# EAGLE library part TMS320F28379DPTPS (library TMS320F28379D_PTP)
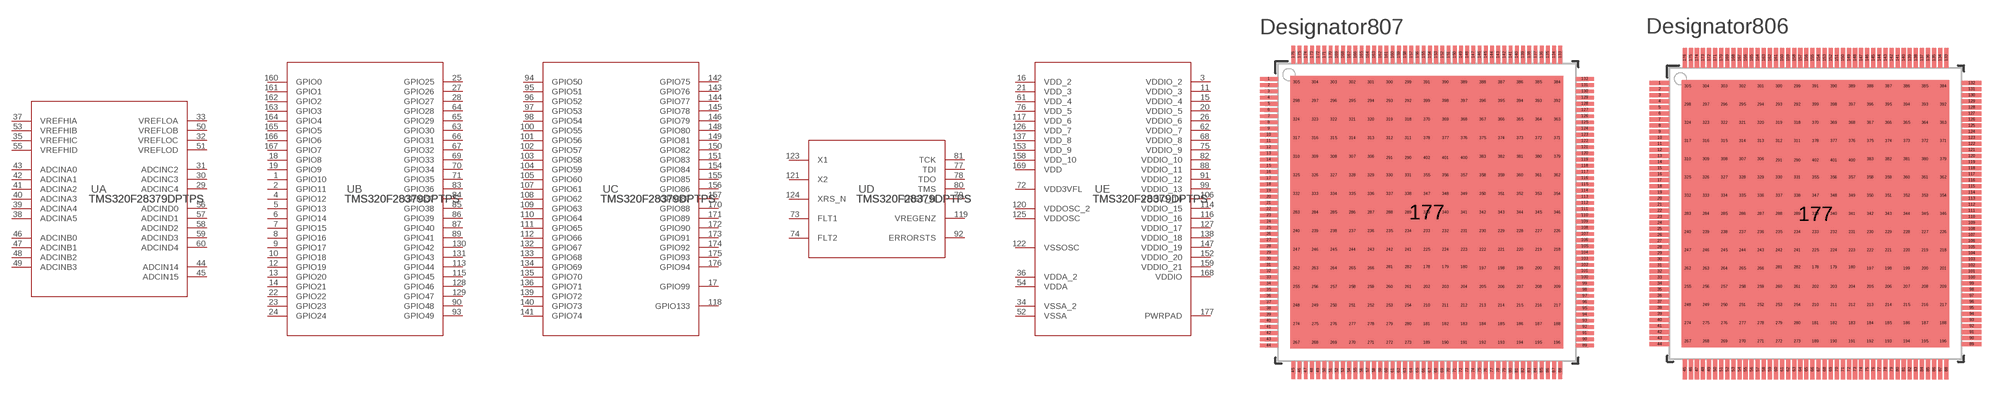
[diagram p0: symbol with the pads of PTP0176F_N; footprints PTP0176F_N, PTP0176F_M]

Designator prefix U; gates A=TMS320F28379DPTP_A B=TMS320F28379DPTP_B C=TMS320F28379DPTP_C D=TMS320F28379DPTP_D E=TMS320F28379DPTP_E

## TMS320F28379DPTPSPTP0176F_N (Manufacturer: Texas Instruments; PartNumber: TMS320F28379DPTPS; RefDes: RefDes; TYPE: TYPE; Value: Value)  [PTP0176F_N]
1  B:GPIO10
2  B:GPIO11
3  E:VDDIO_2  pwr
4  B:GPIO12
5  B:GPIO13
6  B:GPIO14
7  B:GPIO15
8  B:GPIO16
9  B:GPIO17
10  B:GPIO18
11  E:VDDIO_3  pwr
12  B:GPIO19
13  B:GPIO20
14  B:GPIO21
15  E:VDDIO_4  pwr
16  E:VDD_2  pwr
17  C:GPIO99
18  B:GPIO8
19  B:GPIO9
20  E:VDDIO_5  pwr
21  E:VDD_3  pwr
22  B:GPIO22
23  B:GPIO23
24  B:GPIO24
25  B:GPIO25
26  E:VDDIO_6  pwr
27  B:GPIO26
28  B:GPIO27
29  A:ADCINC4  in
30  A:ADCINC3  in
31  A:ADCINC2  in
32  A:VREFLOC  in
33  A:VREFLOA  in
34  E:VSSA_2  pwr
35  A:VREFHIC  in
36  E:VDDA_2  pwr
37  A:VREFHIA  in
38  A:ADCINA5  in
39  A:ADCINA4  in
40  A:ADCINA3  in
41  A:ADCINA2  in
42  A:ADCINA1  in
43  A:ADCINA0  in
44  A:ADCIN14  in
45  A:ADCIN15  in
46  A:ADCINB0  in
47  A:ADCINB1  in
48  A:ADCINB2  in
49  A:ADCINB3  in
50  A:VREFLOB  in
51  A:VREFLOD  in
52  E:VSSA  pwr
53  A:VREFHIB  in
54  E:VDDA  pwr
55  A:VREFHID  in
56  A:ADCIND0  in
57  A:ADCIND1  in
58  A:ADCIND2  in
59  A:ADCIND3  in
60  A:ADCIND4  in
61  E:VDD_4  pwr
62  E:VDDIO_7  pwr
63  B:GPIO30
64  B:GPIO28
65  B:GPIO29
66  B:GPIO31
67  B:GPIO32
68  E:VDDIO_8  pwr
69  B:GPIO33
70  B:GPIO34
71  B:GPIO35
72  E:VDD3VFL  pwr
73  D:FLT1
74  D:FLT2
75  E:VDDIO_9  pwr
76  E:VDD_5  pwr
77  D:TDI  in
78  D:TDO  out
79  D:TRST_N  in
80  D:TMS  in
81  D:TCK  in
82  E:VDDIO_10  pwr
83  B:GPIO36
84  B:GPIO37
85  B:GPIO38
86  B:GPIO39
87  B:GPIO40
88  E:VDDIO_11  pwr
89  B:GPIO41
90  B:GPIO48
91  E:VDDIO_12  pwr
92  D:ERRORSTS  out
93  B:GPIO49
94  C:GPIO50
95  C:GPIO51
96  C:GPIO52
97  C:GPIO53
98  C:GPIO54
99  E:VDDIO_13  pwr
100  C:GPIO55
101  C:GPIO56
102  C:GPIO57
103  C:GPIO58
104  C:GPIO59
105  C:GPIO60
106  E:VDDIO_14  pwr
107  C:GPIO61
108  C:GPIO62
109  C:GPIO63
110  C:GPIO64
111  C:GPIO65
112  C:GPIO66
113  B:GPIO44
114  E:VDDIO_15  pwr
115  B:GPIO45
116  E:VDDIO_16  pwr
117  E:VDD_6  pwr
118  C:GPIO133
119  D:VREGENZ  in
120  E:VDDOSC_2  pwr
121  D:X2  out
122  E:VSSOSC  pwr
123  D:X1  in
124  D:XRS_N
125  E:VDDOSC  pwr
126  E:VDD_7  pwr
127  E:VDDIO_17  pwr
128  B:GPIO46
129  B:GPIO47
130  B:GPIO42
131  B:GPIO43
132  C:GPIO67
133  C:GPIO68
134  C:GPIO69
135  C:GPIO70
136  C:GPIO71
137  E:VDD_8  pwr
138  E:VDDIO_18  pwr
139  C:GPIO72
140  C:GPIO73
141  C:GPIO74
142  C:GPIO75
143  C:GPIO76
144  C:GPIO77
145  C:GPIO78
146  C:GPIO79
147  E:VDDIO_19  pwr
148  C:GPIO80
149  C:GPIO81
150  C:GPIO82
151  C:GPIO83
152  E:VDDIO_20  pwr
153  E:VDD_9  pwr
154  C:GPIO84
155  C:GPIO85
156  C:GPIO86
157  C:GPIO87
158  E:VDD_10  pwr
159  E:VDDIO_21  pwr
160  B:GPIO0
161  B:GPIO1
162  B:GPIO2
163  B:GPIO3
164  B:GPIO4
165  B:GPIO5
166  B:GPIO6
167  B:GPIO7
168  E:VDDIO  pwr
169  E:VDD  pwr
170  C:GPIO88
171  C:GPIO89
172  C:GPIO90
173  C:GPIO91
174  C:GPIO92
175  C:GPIO93
176  C:GPIO94
177  E:PWRPAD  pwr

## TMS320F28379DPTPSPTP0176F_M (Manufacturer: Texas Instruments; PartNumber: TMS320F28379DPTPS; RefDes: RefDes; TYPE: TYPE; Value: Value)  [PTP0176F_M]
Pads as for PTP0176F_N

## TMS320F28379DPTPSPTP0176F_L (Manufacturer: Texas Instruments; PartNumber: TMS320F28379DPTPS; RefDes: RefDes; TYPE: TYPE; Value: Value)  [PTP0176F_L]
Pads as for PTP0176F_N

## Footprint PTP0176F_N (pad centres in mm)
smd 1.45 x 0.3: 1 -12.725,10.75; 2 -12.725,10.25; 3 -12.725,9.75; 4 -12.725,9.25; 5 -12.725,8.75; 6 -12.725,8.25; 7 -12.725,7.75; 8 -12.725,7.25; 9 -12.725,6.75; 10 -12.725,6.25; 11 -12.725,5.75; 12 -12.725,5.25; 13 -12.725,4.75; 14 -12.725,4.25; 15 -12.725,3.75; 16 -12.725,3.25; 17 -12.725,2.75; 18 -12.725,2.25; 19 -12.725,1.75; 20 -12.725,1.25; 21 -12.725,0.75; 22 -12.725,0.25; 23 -12.725,-0.25; 24 -12.725,-0.75; 25 -12.725,-1.25; 26 -12.725,-1.75; 27 -12.725,-2.25; 28 -12.725,-2.75; 29 -12.725,-3.25; 30 -12.725,-3.75; 31 -12.725,-4.25; 32 -12.725,-4.75; 33 -12.725,-5.25; 34 -12.725,-5.75; 35 -12.725,-6.25; 36 -12.725,-6.75; 37 -12.725,-7.25; 38 -12.725,-7.75; 39 -12.725,-8.25; 40 -12.725,-8.75; 41 -12.725,-9.25; 42 -12.725,-9.75; 43 -12.725,-10.25; 44 -12.725,-10.75; 89 12.725,-10.75; 90 12.725,-10.25; 91 12.725,-9.75; 92 12.725,-9.25; 93 12.725,-8.75; 94 12.725,-8.25; 95 12.725,-7.75; 96 12.725,-7.25; 97 12.725,-6.75; 98 12.725,-6.25; 99 12.725,-5.75; 100 12.725,-5.25; 101 12.725,-4.75; 102 12.725,-4.25; 103 12.725,-3.75; 104 12.725,-3.25; 105 12.725,-2.75; 106 12.725,-2.25; 107 12.725,-1.75; 108 12.725,-1.25; 109 12.725,-0.75; 110 12.725,-0.25; 111 12.725,0.25; 112 12.725,0.75; 113 12.725,1.25; 114 12.725,1.75; 115 12.725,2.25; 116 12.725,2.75; 117 12.725,3.25; 118 12.725,3.75; 119 12.725,4.25; 120 12.725,4.75; 121 12.725,5.25; 122 12.725,5.75; 123 12.725,6.25; 124 12.725,6.75; 125 12.725,7.25; 126 12.725,7.75; 127 12.725,8.25; 128 12.725,8.75; 129 12.725,9.25; 130 12.725,9.75; 131 12.725,10.25; 132 12.725,10.75
smd 0.3 x 1.45: 45 -10.75,-12.725; 46 -10.25,-12.725; 47 -9.75,-12.725; 48 -9.25,-12.725; 49 -8.75,-12.725; 50 -8.25,-12.725; 51 -7.75,-12.725; 52 -7.25,-12.725; 53 -6.75,-12.725; 54 -6.25,-12.725; 55 -5.75,-12.725; 56 -5.25,-12.725; 57 -4.75,-12.725; 58 -4.25,-12.725; 59 -3.75,-12.725; 60 -3.25,-12.725; 61 -2.75,-12.725; 62 -2.25,-12.725; 63 -1.75,-12.725; 64 -1.25,-12.725; 65 -0.75,-12.725; 66 -0.25,-12.725; 67 0.25,-12.725; 68 0.75,-12.725; 69 1.25,-12.725; 70 1.75,-12.725; 71 2.25,-12.725; 72 2.75,-12.725; 73 3.25,-12.725; 74 3.75,-12.725; 75 4.25,-12.725; 76 4.75,-12.725; 77 5.25,-12.725; 78 5.75,-12.725; 79 6.25,-12.725; 80 6.75,-12.725; 81 7.25,-12.725; 82 7.75,-12.725; 83 8.25,-12.725; 84 8.75,-12.725; 85 9.25,-12.725; 86 9.75,-12.725; 87 10.25,-12.725; 88 10.75,-12.725; 133 10.75,12.725; 134 10.25,12.725; 135 9.75,12.725; 136 9.25,12.725; 137 8.75,12.725; 138 8.25,12.725; 139 7.75,12.725; 140 7.25,12.725; 141 6.75,12.725; 142 6.25,12.725; 143 5.75,12.725; 144 5.25,12.725; 145 4.75,12.725; 146 4.25,12.725; 147 3.75,12.725; 148 3.25,12.725; 149 2.75,12.725; 150 2.25,12.725; 151 1.75,12.725; 152 1.25,12.725; 153 0.75,12.725; 154 0.25,12.725; 155 -0.25,12.725; 156 -0.75,12.725; 157 -1.25,12.725; 158 -1.75,12.725; 159 -2.25,12.725; 160 -2.75,12.725; 161 -3.25,12.725; 162 -3.75,12.725; 163 -4.25,12.725; 164 -4.75,12.725; 165 -5.25,12.725; 166 -5.75,12.725; 167 -6.25,12.725; 168 -6.75,12.725; 169 -7.25,12.725; 170 -7.75,12.725; 171 -8.25,12.725; 172 -8.75,12.725; 173 -9.25,12.725; 174 -9.75,12.725; 175 -10.25,12.725; 176 -10.75,12.725
smd 22 x 22: 177 0,0
smd 0.5 x 0.5: 178 0,-4.4; 179 1.5,-4.4; 180 3,-4.4; 181 0,-9; 182 1.5,-9; 183 3,-9; 184 4.5,-9; 185 6,-9; 186 7.5,-9; 187 9,-9; 188 10.5,-9; 189 0,-10.5; 190 1.5,-10.5; 191 3,-10.5; 192 4.5,-10.5; 193 6,-10.5; 194 7.5,-10.5; 195 9,-10.5; 196 10.5,-10.5; 197 4.5,-4.5; 198 6,-4.5; 199 7.5,-4.5; 200 9,-4.5; 201 10.5,-4.5; 202 0,-6; 203 1.5,-6; 204 3,-6; 205 4.5,-6; 206 6,-6; 207 7.5,-6; 208 9,-6; 209 10.5,-6; 210 0,-7.5; 211 1.5,-7.5; 212 3,-7.5; 213 4.5,-7.5; 214 6,-7.5; 215 7.5,-7.5; 216 9,-7.5; 217 10.5,-7.5; 218 10.5,-3; 219 9,-3; 220 7.5,-3; 221 6,-3; 222 4.5,-3; 223 3,-3; 224 1.5,-3; 225 0,-3; 226 10.5,-1.5; 227 9,-1.5; 228 7.5,-1.5; 229 6,-1.5; 230 4.5,-1.5; 231 3,-1.5; 232 1.5,-1.5; 233 0,-1.5; 234 -1.5,-1.5; 235 -3,-1.5; 236 -4.5,-1.5; 237 -6,-1.5; 238 -7.5,-1.5; 239 -9,-1.5; 240 -10.5,-1.5; 241 -1.5,-3; 242 -3,-3; 243 -4.5,-3; 244 -6,-3; 245 -7.5,-3; 246 -9,-3; 247 -10.5,-3; 248 -10.5,-7.5; 249 -9,-7.5; 250 -7.5,-7.5; 251 -6,-7.5; 252 -4.5,-7.5; 253 -3,-7.5; 254 -1.5,-7.5; 255 -10.5,-6; 256 -9,-6; 257 -7.5,-6; 258 -6,-6; 259 -4.5,-6; 260 -3,-6; 261 -1.5,-6; 262 -10.5,-4.5; 263 -9,-4.5; 264 -7.5,-4.5; 265 -6,-4.5; 266 -4.5,-4.5; 267 -10.5,-10.5; 268 -9,-10.5; 269 -7.5,-10.5; 270 -6,-10.5; 271 -4.5,-10.5; 272 -3,-10.5; 273 -1.5,-10.5; 274 -10.5,-9; 275 -9,-9; 276 -7.5,-9; 277 -6,-9; 278 -4.5,-9; 279 -3,-9; 280 -1.5,-9; 281 -3,-4.4; 282 -1.5,-4.4; 283 -10.5,0; 284 -9,0; 285 -7.5,0; 286 -6,0; 287 -4.5,0; 288 -3,0; 289 -1.5,0; 290 -1.5,4.4; 291 -3,4.4; 292 -1.5,9; 293 -3,9; 294 -4.5,9; 295 -6,9; 296 -7.5,9; 297 -9,9; 298 -10.5,9; 299 -1.5,10.5; 300 -3,10.5; 301 -4.5,10.5; 302 -6,10.5; 303 -7.5,10.5; 304 -9,10.5; 305 -10.5,10.5; 306 -4.5,4.5; 307 -6,4.5; 308 -7.5,4.5; 309 -9,4.5; 310 -10.5,4.5; 311 -1.5,6; 312 -3,6; 313 -4.5,6; 314 -6,6; 315 -7.5,6; 316 -9,6; 317 -10.5,6; 318 -1.5,7.5; 319 -3,7.5; 320 -4.5,7.5; 321 -6,7.5; 322 -7.5,7.5; 323 -9,7.5; 324 -10.5,7.5; 325 -10.5,3; 326 -9,3; 327 -7.5,3; 328 -6,3; 329 -4.5,3; 330 -3,3; 331 -1.5,3; 332 -10.5,1.5; 333 -9,1.5; 334 -7.5,1.5; 335 -6,1.5; 336 -4.5,1.5; 337 -3,1.5; 338 -1.5,1.5; 339 0,0; 340 1.5,0; 341 3,0; 342 4.5,0; 343 6,0; 344 7.5,0; 345 9,0; 346 10.5,0; 347 0,1.5; 348 1.5,1.5; 349 3,1.5; 350 4.5,1.5; 351 6,1.5; 352 7.5,1.5; 353 9,1.5; 354 10.5,1.5; 355 0,3; 356 1.5,3; 357 3,3; 358 4.5,3; 359 6,3; 360 7.5,3; 361 9,3; 362 10.5,3; 363 10.5,7.5; 364 9,7.5; 365 7.5,7.5; 366 6,7.5; 367 4.5,7.5; 368 3,7.5; 369 1.5,7.5; 370 0,7.5; 371 10.5,6; 372 9,6; 373 7.5,6; 374 6,6; 375 4.5,6; 376 3,6; 377 1.5,6; 378 0,6; 379 10.5,4.5; 380 9,4.5; 381 7.5,4.5; 382 6,4.5; 383 4.5,4.5; 384 10.5,10.5; 385 9,10.5; 386 7.5,10.5; 387 6,10.5; 388 4.5,10.5; 389 3,10.5; 390 1.5,10.5; 391 0,10.5; 392 10.5,9; 393 9,9; 394 7.5,9; 395 6,9; 396 4.5,9; 397 3,9; 398 1.5,9; 399 0,9; 400 3,4.4; 401 1.5,4.4; 402 0,4.4

## Footprint PTP0176F_M (pad centres in mm)
smd 1.65 x 0.35: 1 -12.825,10.75; 2 -12.825,10.25; 3 -12.825,9.75; 4 -12.825,9.25; 5 -12.825,8.75; 6 -12.825,8.25; 7 -12.825,7.75; 8 -12.825,7.25; 9 -12.825,6.75; 10 -12.825,6.25; 11 -12.825,5.75; 12 -12.825,5.25; 13 -12.825,4.75; 14 -12.825,4.25; 15 -12.825,3.75; 16 -12.825,3.25; 17 -12.825,2.75; 18 -12.825,2.25; 19 -12.825,1.75; 20 -12.825,1.25; 21 -12.825,0.75; 22 -12.825,0.25; 23 -12.825,-0.25; 24 -12.825,-0.75; 25 -12.825,-1.25; 26 -12.825,-1.75; 27 -12.825,-2.25; 28 -12.825,-2.75; 29 -12.825,-3.25; 30 -12.825,-3.75; 31 -12.825,-4.25; 32 -12.825,-4.75; 33 -12.825,-5.25; 34 -12.825,-5.75; 35 -12.825,-6.25; 36 -12.825,-6.75; 37 -12.825,-7.25; 38 -12.825,-7.75; 39 -12.825,-8.25; 40 -12.825,-8.75; 41 -12.825,-9.25; 42 -12.825,-9.75; 43 -12.825,-10.25; 44 -12.825,-10.75; 89 12.825,-10.75; 90 12.825,-10.25; 91 12.825,-9.75; 92 12.825,-9.25; 93 12.825,-8.75; 94 12.825,-8.25; 95 12.825,-7.75; 96 12.825,-7.25; 97 12.825,-6.75; 98 12.825,-6.25; 99 12.825,-5.75; 100 12.825,-5.25; 101 12.825,-4.75; 102 12.825,-4.25; 103 12.825,-3.75; 104 12.825,-3.25; 105 12.825,-2.75; 106 12.825,-2.25; 107 12.825,-1.75; 108 12.825,-1.25; 109 12.825,-0.75; 110 12.825,-0.25; 111 12.825,0.25; 112 12.825,0.75; 113 12.825,1.25; 114 12.825,1.75; 115 12.825,2.25; 116 12.825,2.75; 117 12.825,3.25; 118 12.825,3.75; 119 12.825,4.25; 120 12.825,4.75; 121 12.825,5.25; 122 12.825,5.75; 123 12.825,6.25; 124 12.825,6.75; 125 12.825,7.25; 126 12.825,7.75; 127 12.825,8.25; 128 12.825,8.75; 129 12.825,9.25; 130 12.825,9.75; 131 12.825,10.25; 132 12.825,10.75
smd 0.35 x 1.65: 45 -10.75,-12.825; 46 -10.25,-12.825; 47 -9.75,-12.825; 48 -9.25,-12.825; 49 -8.75,-12.825; 50 -8.25,-12.825; 51 -7.75,-12.825; 52 -7.25,-12.825; 53 -6.75,-12.825; 54 -6.25,-12.825; 55 -5.75,-12.825; 56 -5.25,-12.825; 57 -4.75,-12.825; 58 -4.25,-12.825; 59 -3.75,-12.825; 60 -3.25,-12.825; 61 -2.75,-12.825; 62 -2.25,-12.825; 63 -1.75,-12.825; 64 -1.25,-12.825; 65 -0.75,-12.825; 66 -0.25,-12.825; 67 0.25,-12.825; 68 0.75,-12.825; 69 1.25,-12.825; 70 1.75,-12.825; 71 2.25,-12.825; 72 2.75,-12.825; 73 3.25,-12.825; 74 3.75,-12.825; 75 4.25,-12.825; 76 4.75,-12.825; 77 5.25,-12.825; 78 5.75,-12.825; 79 6.25,-12.825; 80 6.75,-12.825; 81 7.25,-12.825; 82 7.75,-12.825; 83 8.25,-12.825; 84 8.75,-12.825; 85 9.25,-12.825; 86 9.75,-12.825; 87 10.25,-12.825; 88 10.75,-12.825; 133 10.75,12.825; 134 10.25,12.825; 135 9.75,12.825; 136 9.25,12.825; 137 8.75,12.825; 138 8.25,12.825; 139 7.75,12.825; 140 7.25,12.825; 141 6.75,12.825; 142 6.25,12.825; 143 5.75,12.825; 144 5.25,12.825; 145 4.75,12.825; 146 4.25,12.825; 147 3.75,12.825; 148 3.25,12.825; 149 2.75,12.825; 150 2.25,12.825; 151 1.75,12.825; 152 1.25,12.825; 153 0.75,12.825; 154 0.25,12.825; 155 -0.25,12.825; 156 -0.75,12.825; 157 -1.25,12.825; 158 -1.75,12.825; 159 -2.25,12.825; 160 -2.75,12.825; 161 -3.25,12.825; 162 -3.75,12.825; 163 -4.25,12.825; 164 -4.75,12.825; 165 -5.25,12.825; 166 -5.75,12.825; 167 -6.25,12.825; 168 -6.75,12.825; 169 -7.25,12.825; 170 -7.75,12.825; 171 -8.25,12.825; 172 -8.75,12.825; 173 -9.25,12.825; 174 -9.75,12.825; 175 -10.25,12.825; 176 -10.75,12.825
smd 22 x 22: 177 0,0
smd 0.5 x 0.5: 178 0,-4.4; 179 1.5,-4.4; 180 3,-4.4; 181 0,-9; 182 1.5,-9; 183 3,-9; 184 4.5,-9; 185 6,-9; 186 7.5,-9; 187 9,-9; 188 10.5,-9; 189 0,-10.5; 190 1.5,-10.5; 191 3,-10.5; 192 4.5,-10.5; 193 6,-10.5; 194 7.5,-10.5; 195 9,-10.5; 196 10.5,-10.5; 197 4.5,-4.5; 198 6,-4.5; 199 7.5,-4.5; 200 9,-4.5; 201 10.5,-4.5; 202 0,-6; 203 1.5,-6; 204 3,-6; 205 4.5,-6; 206 6,-6; 207 7.5,-6; 208 9,-6; 209 10.5,-6; 210 0,-7.5; 211 1.5,-7.5; 212 3,-7.5; 213 4.5,-7.5; 214 6,-7.5; 215 7.5,-7.5; 216 9,-7.5; 217 10.5,-7.5; 218 10.5,-3; 219 9,-3; 220 7.5,-3; 221 6,-3; 222 4.5,-3; 223 3,-3; 224 1.5,-3; 225 0,-3; 226 10.5,-1.5; 227 9,-1.5; 228 7.5,-1.5; 229 6,-1.5; 230 4.5,-1.5; 231 3,-1.5; 232 1.5,-1.5; 233 0,-1.5; 234 -1.5,-1.5; 235 -3,-1.5; 236 -4.5,-1.5; 237 -6,-1.5; 238 -7.5,-1.5; 239 -9,-1.5; 240 -10.5,-1.5; 241 -1.5,-3; 242 -3,-3; 243 -4.5,-3; 244 -6,-3; 245 -7.5,-3; 246 -9,-3; 247 -10.5,-3; 248 -10.5,-7.5; 249 -9,-7.5; 250 -7.5,-7.5; 251 -6,-7.5; 252 -4.5,-7.5; 253 -3,-7.5; 254 -1.5,-7.5; 255 -10.5,-6; 256 -9,-6; 257 -7.5,-6; 258 -6,-6; 259 -4.5,-6; 260 -3,-6; 261 -1.5,-6; 262 -10.5,-4.5; 263 -9,-4.5; 264 -7.5,-4.5; 265 -6,-4.5; 266 -4.5,-4.5; 267 -10.5,-10.5; 268 -9,-10.5; 269 -7.5,-10.5; 270 -6,-10.5; 271 -4.5,-10.5; 272 -3,-10.5; 273 -1.5,-10.5; 274 -10.5,-9; 275 -9,-9; 276 -7.5,-9; 277 -6,-9; 278 -4.5,-9; 279 -3,-9; 280 -1.5,-9; 281 -3,-4.4; 282 -1.5,-4.4; 283 -10.5,0; 284 -9,0; 285 -7.5,0; 286 -6,0; 287 -4.5,0; 288 -3,0; 289 -1.5,0; 290 -1.5,4.4; 291 -3,4.4; 292 -1.5,9; 293 -3,9; 294 -4.5,9; 295 -6,9; 296 -7.5,9; 297 -9,9; 298 -10.5,9; 299 -1.5,10.5; 300 -3,10.5; 301 -4.5,10.5; 302 -6,10.5; 303 -7.5,10.5; 304 -9,10.5; 305 -10.5,10.5; 306 -4.5,4.5; 307 -6,4.5; 308 -7.5,4.5; 309 -9,4.5; 310 -10.5,4.5; 311 -1.5,6; 312 -3,6; 313 -4.5,6; 314 -6,6; 315 -7.5,6; 316 -9,6; 317 -10.5,6; 318 -1.5,7.5; 319 -3,7.5; 320 -4.5,7.5; 321 -6,7.5; 322 -7.5,7.5; 323 -9,7.5; 324 -10.5,7.5; 325 -10.5,3; 326 -9,3; 327 -7.5,3; 328 -6,3; 329 -4.5,3; 330 -3,3; 331 -1.5,3; 332 -10.5,1.5; 333 -9,1.5; 334 -7.5,1.5; 335 -6,1.5; 336 -4.5,1.5; 337 -3,1.5; 338 -1.5,1.5; 339 0,0; 340 1.5,0; 341 3,0; 342 4.5,0; 343 6,0; 344 7.5,0; 345 9,0; 346 10.5,0; 347 0,1.5; 348 1.5,1.5; 349 3,1.5; 350 4.5,1.5; 351 6,1.5; 352 7.5,1.5; 353 9,1.5; 354 10.5,1.5; 355 0,3; 356 1.5,3; 357 3,3; 358 4.5,3; 359 6,3; 360 7.5,3; 361 9,3; 362 10.5,3; 363 10.5,7.5; 364 9,7.5; 365 7.5,7.5; 366 6,7.5; 367 4.5,7.5; 368 3,7.5; 369 1.5,7.5; 370 0,7.5; 371 10.5,6; 372 9,6; 373 7.5,6; 374 6,6; 375 4.5,6; 376 3,6; 377 1.5,6; 378 0,6; 379 10.5,4.5; 380 9,4.5; 381 7.5,4.5; 382 6,4.5; 383 4.5,4.5; 384 10.5,10.5; 385 9,10.5; 386 7.5,10.5; 387 6,10.5; 388 4.5,10.5; 389 3,10.5; 390 1.5,10.5; 391 0,10.5; 392 10.5,9; 393 9,9; 394 7.5,9; 395 6,9; 396 4.5,9; 397 3,9; 398 1.5,9; 399 0,9; 400 3,4.4; 401 1.5,4.4; 402 0,4.4

## Footprint PTP0176F_L (pad centres in mm)
smd 1.25 x 0.25: 1 -12.625,10.75; 2 -12.625,10.25; 3 -12.625,9.75; 4 -12.625,9.25; 5 -12.625,8.75; 6 -12.625,8.25; 7 -12.625,7.75; 8 -12.625,7.25; 9 -12.625,6.75; 10 -12.625,6.25; 11 -12.625,5.75; 12 -12.625,5.25; 13 -12.625,4.75; 14 -12.625,4.25; 15 -12.625,3.75; 16 -12.625,3.25; 17 -12.625,2.75; 18 -12.625,2.25; 19 -12.625,1.75; 20 -12.625,1.25; 21 -12.625,0.75; 22 -12.625,0.25; 23 -12.625,-0.25; 24 -12.625,-0.75; 25 -12.625,-1.25; 26 -12.625,-1.75; 27 -12.625,-2.25; 28 -12.625,-2.75; 29 -12.625,-3.25; 30 -12.625,-3.75; 31 -12.625,-4.25; 32 -12.625,-4.75; 33 -12.625,-5.25; 34 -12.625,-5.75; 35 -12.625,-6.25; 36 -12.625,-6.75; 37 -12.625,-7.25; 38 -12.625,-7.75; 39 -12.625,-8.25; 40 -12.625,-8.75; 41 -12.625,-9.25; 42 -12.625,-9.75; 43 -12.625,-10.25; 44 -12.625,-10.75; 89 12.625,-10.75; 90 12.625,-10.25; 91 12.625,-9.75; 92 12.625,-9.25; 93 12.625,-8.75; 94 12.625,-8.25; 95 12.625,-7.75; 96 12.625,-7.25; 97 12.625,-6.75; 98 12.625,-6.25; 99 12.625,-5.75; 100 12.625,-5.25; 101 12.625,-4.75; 102 12.625,-4.25; 103 12.625,-3.75; 104 12.625,-3.25; 105 12.625,-2.75; 106 12.625,-2.25; 107 12.625,-1.75; 108 12.625,-1.25; 109 12.625,-0.75; 110 12.625,-0.25; 111 12.625,0.25; 112 12.625,0.75; 113 12.625,1.25; 114 12.625,1.75; 115 12.625,2.25; 116 12.625,2.75; 117 12.625,3.25; 118 12.625,3.75; 119 12.625,4.25; 120 12.625,4.75; 121 12.625,5.25; 122 12.625,5.75; 123 12.625,6.25; 124 12.625,6.75; 125 12.625,7.25; 126 12.625,7.75; 127 12.625,8.25; 128 12.625,8.75; 129 12.625,9.25; 130 12.625,9.75; 131 12.625,10.25; 132 12.625,10.75
smd 0.25 x 1.25: 45 -10.75,-12.625; 46 -10.25,-12.625; 47 -9.75,-12.625; 48 -9.25,-12.625; 49 -8.75,-12.625; 50 -8.25,-12.625; 51 -7.75,-12.625; 52 -7.25,-12.625; 53 -6.75,-12.625; 54 -6.25,-12.625; 55 -5.75,-12.625; 56 -5.25,-12.625; 57 -4.75,-12.625; 58 -4.25,-12.625; 59 -3.75,-12.625; 60 -3.25,-12.625; 61 -2.75,-12.625; 62 -2.25,-12.625; 63 -1.75,-12.625; 64 -1.25,-12.625; 65 -0.75,-12.625; 66 -0.25,-12.625; 67 0.25,-12.625; 68 0.75,-12.625; 69 1.25,-12.625; 70 1.75,-12.625; 71 2.25,-12.625; 72 2.75,-12.625; 73 3.25,-12.625; 74 3.75,-12.625; 75 4.25,-12.625; 76 4.75,-12.625; 77 5.25,-12.625; 78 5.75,-12.625; 79 6.25,-12.625; 80 6.75,-12.625; 81 7.25,-12.625; 82 7.75,-12.625; 83 8.25,-12.625; 84 8.75,-12.625; 85 9.25,-12.625; 86 9.75,-12.625; 87 10.25,-12.625; 88 10.75,-12.625; 133 10.75,12.625; 134 10.25,12.625; 135 9.75,12.625; 136 9.25,12.625; 137 8.75,12.625; 138 8.25,12.625; 139 7.75,12.625; 140 7.25,12.625; 141 6.75,12.625; 142 6.25,12.625; 143 5.75,12.625; 144 5.25,12.625; 145 4.75,12.625; 146 4.25,12.625; 147 3.75,12.625; 148 3.25,12.625; 149 2.75,12.625; 150 2.25,12.625; 151 1.75,12.625; 152 1.25,12.625; 153 0.75,12.625; 154 0.25,12.625; 155 -0.25,12.625; 156 -0.75,12.625; 157 -1.25,12.625; 158 -1.75,12.625; 159 -2.25,12.625; 160 -2.75,12.625; 161 -3.25,12.625; 162 -3.75,12.625; 163 -4.25,12.625; 164 -4.75,12.625; 165 -5.25,12.625; 166 -5.75,12.625; 167 -6.25,12.625; 168 -6.75,12.625; 169 -7.25,12.625; 170 -7.75,12.625; 171 -8.25,12.625; 172 -8.75,12.625; 173 -9.25,12.625; 174 -9.75,12.625; 175 -10.25,12.625; 176 -10.75,12.625
smd 22 x 22: 177 0,0
smd 0.5 x 0.5: 178 0,4.4; 179 1.5,4.4; 180 3,4.4; 181 0,9; 182 1.5,9; 183 3,9; 184 4.5,9; 185 6,9; 186 7.5,9; 187 9,9; 188 10.5,9; 189 0,10.5; 190 1.5,10.5; 191 3,10.5; 192 4.5,10.5; 193 6,10.5; 194 7.5,10.5; 195 9,10.5; 196 10.5,10.5; 197 4.5,4.5; 198 6,4.5; 199 7.5,4.5; 200 9,4.5; 201 10.5,4.5; 202 0,6; 203 1.5,6; 204 3,6; 205 4.5,6; 206 6,6; 207 7.5,6; 208 9,6; 209 10.5,6; 210 0,7.5; 211 1.5,7.5; 212 3,7.5; 213 4.5,7.5; 214 6,7.5; 215 7.5,7.5; 216 9,7.5; 217 10.5,7.5; 218 10.5,3; 219 9,3; 220 7.5,3; 221 6,3; 222 4.5,3; 223 3,3; 224 1.5,3; 225 0,3; 226 10.5,1.5; 227 9,1.5; 228 7.5,1.5; 229 6,1.5; 230 4.5,1.5; 231 3,1.5; 232 1.5,1.5; 233 0,1.5; 234 10.5,0; 235 9,0; 236 7.5,0; 237 6,0; 238 4.5,0; 239 3,0; 240 1.5,0; 241 0,0; 242 -1.5,1.5; 243 -3,1.5; 244 -4.5,1.5; 245 -6,1.5; 246 -7.5,1.5; 247 -9,1.5; 248 -10.5,1.5; 249 -1.5,3; 250 -3,3; 251 -4.5,3; 252 -6,3; 253 -7.5,3; 254 -9,3; 255 -10.5,3; 256 -10.5,7.5; 257 -9,7.5; 258 -7.5,7.5; 259 -6,7.5; 260 -4.5,7.5; 261 -3,7.5; 262 -1.5,7.5; 263 -10.5,6; 265 -7.5,6; 266 -6,6; 267 -4.5,6; 268 -3,6; 269 -1.5,6; 270 -10.5,4.5; 271 -9,4.5; 272 -7.5,4.5; 273 -6,4.5; 274 -4.5,4.5; 275 -10.5,10.5; 276 -9,10.5; 277 -7.5,10.5; 278 -6,10.5; 279 -4.5,10.5; 280 -3,10.5; 281 -1.5,10.5; 282 -10.5,9; 283 -9,9; 284 -7.5,9; 285 -6,9; 286 -4.5,9; 287 -3,9; 288 -1.5,9; 289 -3,4.4; 290 -1.5,4.4; 291 -1.5,0; 292 -3,0; 293 -4.5,0; 294 -6,0; 295 -7.5,0; 296 -9,0; 298 -1.5,-4.4; 299 -3,-4.4; 300 -1.5,-9; 301 -3,-9; 302 -4.5,-9; 303 -6,-9; 304 -7.5,-9; 305 -9,-9; 306 -10.5,-9; 307 -1.5,-10.5; 308 -3,-10.5; 309 -4.5,-10.5; 310 -6,-10.5; 311 -7.5,-10.5; 312 -9,-10.5; 313 -10.5,-10.5; 314 -4.5,-4.5; 315 -6,-4.5; 316 -7.5,-4.5; 317 -9,-4.5; 318 -10.5,-4.5; 319 -1.5,-6; 320 -3,-6; 321 -4.5,-6; 322 -6,-6; 323 -7.5,-6; 324 -9,-6; 325 -10.5,-6; 326 -1.5,-7.5; 327 -3,-7.5; 328 -4.5,-7.5; 329 -6,-7.5; 330 -7.5,-7.5; 331 -9,-7.5; 332 -10.5,-7.5; 333 -10.5,-3; 334 -9,-3; 335 -7.5,-3; 336 -6,-3; 337 -4.5,-3; 338 -3,-3; 339 -1.5,-3; 340 -10.5,-1.5; 341 -9,-1.5; 342 -7.5,-1.5; 343 -6,-1.5; 344 -4.5,-1.5; 345 -3,-1.5; 346 -1.5,-1.5; 347 0,-1.5; 348 1.5,-1.5; 349 3,-1.5; 350 4.5,-1.5; 351 6,-1.5; 352 7.5,-1.5; 353 9,-1.5; 354 10.5,-1.5; 355 0,-3; 356 1.5,-3; 357 3,-3; 358 4.5,-3; 359 6,-3; 360 7.5,-3; 361 9,-3; 362 10.5,-3; 363 10.5,-7.5; 364 9,-7.5; 365 7.5,-7.5; 366 6,-7.5; 367 4.5,-7.5; 368 3,-7.5; 369 1.5,-7.5; 370 0,-7.5; 371 10.5,-6; 372 9,-6; 373 7.5,-6; 374 6,-6; 375 4.5,-6; 376 3,-6; 377 1.5,-6; 378 0,-6; 379 10.5,-4.5; 380 9,-4.5; 381 7.5,-4.5; 382 6,-4.5; 383 4.5,-4.5; 384 10.5,-10.5; 385 9,-10.5; 386 7.5,-10.5; 387 6,-10.5; 388 4.5,-10.5; 389 3,-10.5; 390 1.5,-10.5; 391 0,-10.5; 392 10.5,-9; 393 9,-9; 394 7.5,-9; 395 6,-9; 396 4.5,-9; 397 3,-9; 398 1.5,-9; 399 0,-9; 400 3,-4.4; 401 1.5,-4.4; 402 0,-4.4; 624 -9,6; 967 -10.5,0